# Altium integrated library motordriver.IntLib: 31 symbols
Pins are listed as number, name and electrical type; pins without a type are passive.

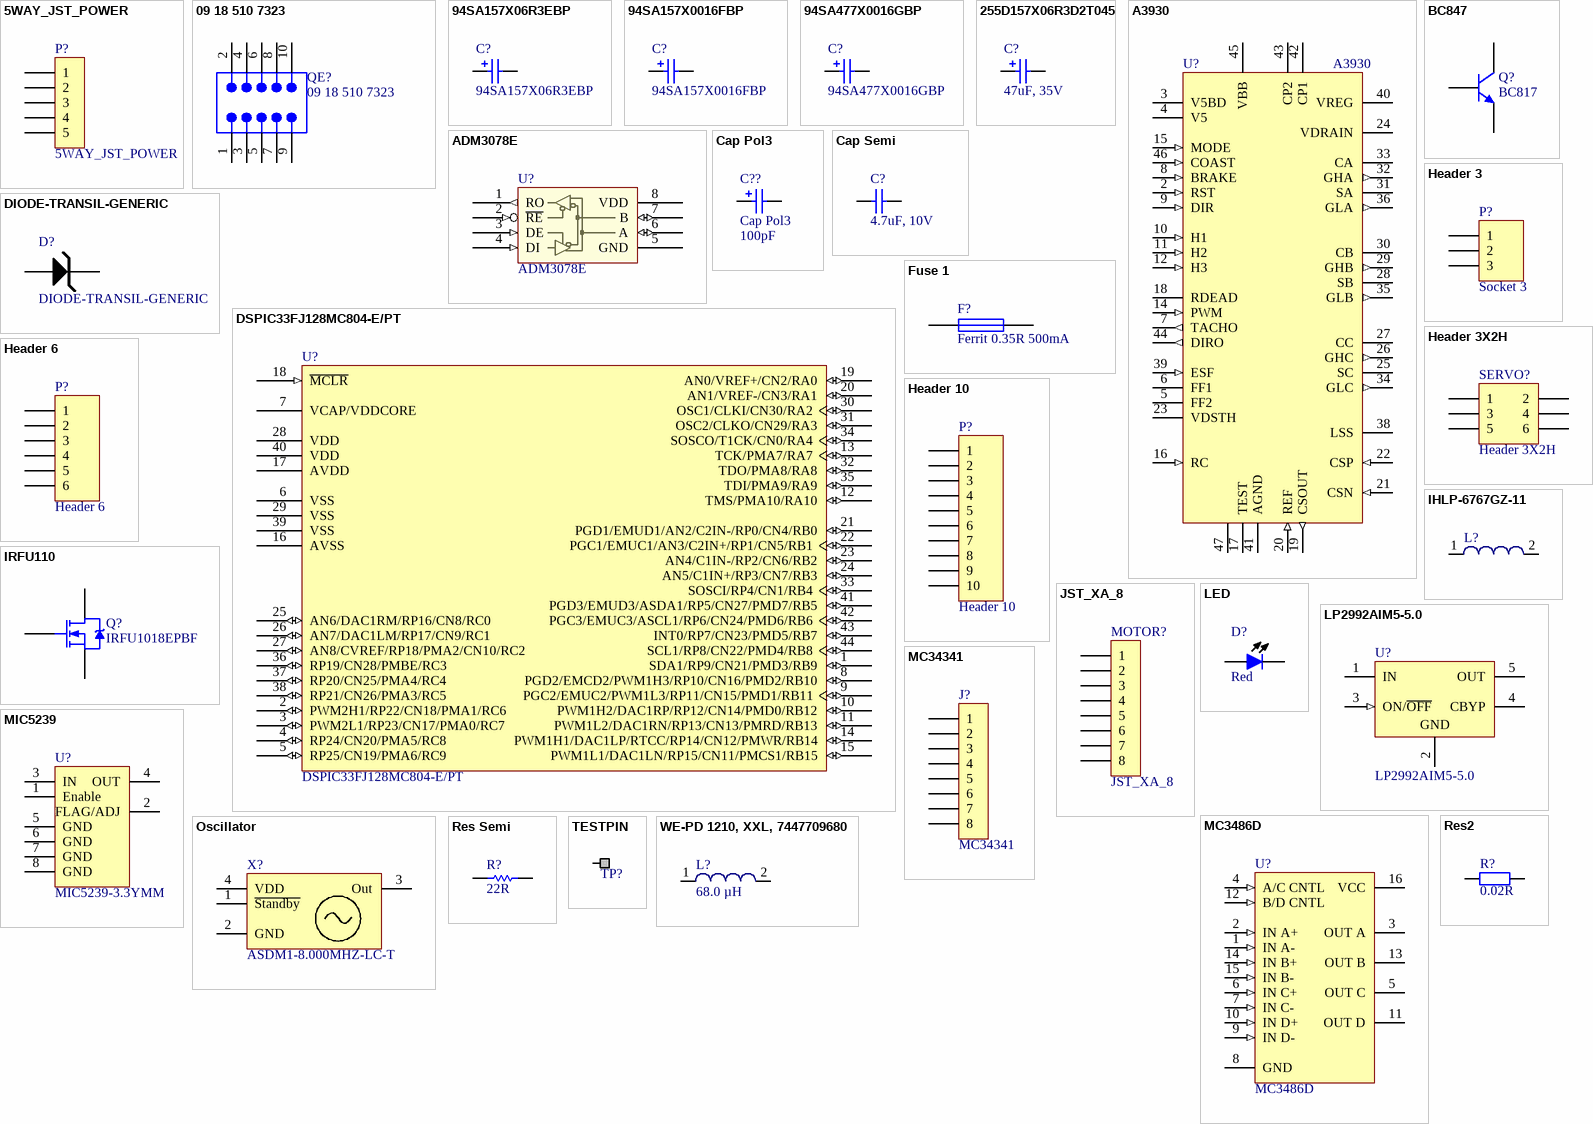
[diagram p0: symbols 5WAY_JST_POWER to WE-PD 1210, XXL, 7447709680]

## 5WAY_JST_POWER
designator P?
footprint JST POWER
pins: 1, 2, 3, 4, 5

## 09 18 510 7323
designator QE?
Flat Cable Connector (IDC), Low-Profile Male Header, Angled Solder Pin, 10 Contacts, Performance Level 3; PCB_Layout: Complies with manufacturer's recommendation.; DrillSize: Corresponds to nominal value.; Published: 15-Nov-2004; DatasheetDocument: Sep-2003; PackageDocument: 03-Jun-2003; PackageReference: 918510x323; Publisher: Altium Limited; ComponentLink1Description: Manufacturer Link; ComponentLink1URL: http://www.harting.com/; ComponentLink2Description: Selection Guide; ComponentLink2URL: http://www.harting.com/imperia/md/content/steckverbinderundsystemkomponenten/folder/interface_engl_chapter_09.pdf
footprint 918510x323 (Connector; IDC, Low Profile Male Header, Thru-Hole; 10 Position; Right Angle; Pitch 2.54 mm; Body 20.32 x 8.9 x 9.2 mm (LxWxH))
pins: 1, 2, 3, 4, 5, 6, 7, 8, 9, 10

## 94SA157X06R3EBP
designator C?
Solid Aluminum Capacitor with Organic Semiconductor Electrolyte: 150uF, 6.3V, Bulk Pack; Note: Part Numbers shown are for ± 20% capacitance tolerance (X0).; PCB_Layout: Complies with Manufacturer's Recommendation.; DrillSize: Nominal, Rounded to the nearest 0.1mm; Published: 19-Mar-2004; DatasheetDocument: 29-Jun-2001; PackageReference: E; Publisher: Altium Limited; ComponentLink1Description: Manufacturer Link; ComponentLink1URL: http://www.vishay.com/; ComponentLink2Description: Datasheet; ComponentLink2URL: http://www.vishay.com/docs/90003/94sa.pdf; Value: 150uF
footprint E (Capacitor, Electrolytic, Radial; Body 8 x 10.5 mm (Dia.xH typ); Pin Spacing 3.5 mm (typ))
simulation model CAP (Capacitor)
signal-integrity model 94SA157X06R3EBP
pins: 1, 2
1 alternate drawing of the same symbol

## 94SA157X0016FBP
designator C?
Solid Aluminum Capacitor with Organic Semiconductor Electrolyte: 150uF, 16V, Bulk Pack; Note: Part Numbers shown are for ± 20% capacitance tolerance (X0).; PCB_Layout: Complies with Manufacturer's Recommendation.; DrillSize: Nominal, Rounded to the nearest 0.1mm; Published: 19-Mar-2004; DatasheetDocument: 29-Jun-2001; PackageReference: F; Publisher: Altium Limited; ComponentLink1Description: Manufacturer Link; ComponentLink1URL: http://www.vishay.com/; ComponentLink2Description: Datasheet; ComponentLink2URL: http://www.vishay.com/docs/90003/94sa.pdf; Value: 150uF
footprint F (Capacitor, Electrolytic, Radial; Body 10 x 10.5 mm (Dia.xH typ); Pin Spacing 5 mm (typ))
simulation model CAP (Capacitor)
signal-integrity model 94SA157X0016FBP
pins: 1, 2
1 alternate drawing of the same symbol

## 94SA477X0016GBP
designator C?
Solid Aluminum Capacitor with Organic Semiconductor Electrolyte: 470uF, 16V, Bulk Pack; Note: Part Numbers shown are for ± 20% capacitance tolerance (X0).; PCB_Layout: Complies with Manufacturer's Recommendation.; DrillSize: Nominal, Rounded to the nearest 0.1mm; Published: 19-Mar-2004; DatasheetDocument: 29-Jun-2001; PackageReference: G; Publisher: Altium Limited; ComponentLink1Description: Manufacturer Link; ComponentLink1URL: http://www.vishay.com/; ComponentLink2Description: Datasheet; ComponentLink2URL: http://www.vishay.com/docs/90003/94sa.pdf; Value: 470uF
footprint G (Capacitor, Electrolytic, Radial; Body 12.5 x 22 mm (Dia.xH typ); Pin Spacing 5 mm (typ))
simulation model CAP (Capacitor)
signal-integrity model 94SA477X0016GBP
pins: 1, 2
1 alternate drawing of the same symbol

## 255D157X06R3D2T045
designator C?, comment 47uF, 35V
Note: See Data Sheet for full range of components; Published: 19-Mar-2004; DatasheetDocument: 04-Feb-2003; PackageReference: 7343; Publisher: Altium Limited; Code_JEITA: 7343; ComponentLink1Description: Manufacturer Link; ComponentLink1URL: http://www.vishay.com/; ComponentLink2Description: Datasheet; ComponentLink2URL: http://www.vishay.com/docs/40052/255d.pdf; Value: 47uF, 35V
footprint 7343 (Capacitor, SM Tantalum; Body 7.3 x 4.3 mm (LxW typ))
simulation model CAP (Capacitor)
signal-integrity model 255D157X06R3D2T045
pins: 1, 2
1 alternate drawing of the same symbol

## A3930
designator U?
brushless motor driver, 3-phase
footprint TSQFP50P900X900X160_HS-48N (TSQFP, 48-Leads, Body 9.2x9.2mm (max), Pitch 0.50mm, IPC Medium Density)
pins: 2 RST (in), 3 V5BD, 4 V5, 5 FF2, 6 FF1, 7 TACHO (out), 8 BRAKE (in), 9 DIR (in), 10 H1 (in), 11 H2 (in), 12 H3 (in), 14 PWM (in), 15 MODE (in), 16 RC (in), 17 TEST, 18 RDEAD, 19 CSOUT (out), 20 REF (in), 21 CSN (in), 22 CSP (in), 23 VDSTH, 24 VDRAIN (power), 25 SC (power), 26 GHC (out), 27 CC, 28 SB, 29 GHB (out), 30 CB, 31 SA, 32 GHA (out), 33 CA, 34 GLC (out), 35 GLB (out), 36 GLA (out), 38 LSS, 39 ESF (in), 40 VREG, 41 AGND (power), 42 CP1, 43 CP2, 44 DIRO (out), 45 VBB (power), 46 COAST (in), 47 (power), 49 AGND hidden to AGND

## ADM3078E
designator U?
Half-Duplex RS485 Transciever, 3.3V, 16Mbps
footprint SOIC-8_M (SOIC, 8-Leads, Body 4.9x3.9mm, Pitch 1.27mm, IPC Low Density)
pins: 1 RO (out), 2 ~{RE} (in), 3 DE (in), 4 DI (in), 5 GND (power), 6 A (io), 7 B (io), 8 VDD (power)

## BC847
designator Q?, comment BC817
NPN General-purpose Transistor; Published: 17-Sep-2003; LatestRevisionDate: 12-Dec-2006; LatestRevisionNote: IPC-7351 Footprint Added.; DatasheetVersion: 4-Feb-2002; PackageVersion: May-1999; PackageReference: SOT23; Publisher: Altium Limited; PackageDescription: 3-Pin SOT-23 Package 0.95 mm Pitch, 2.3 mm Lead Span; ComponentLink1Description: Manufacturer Link; ComponentLink1URL: http://www.semiconductors.philips.com/; ComponentLink2Description: Datasheet; ComponentLink2URL: http://www.semiconductors.philips.com/acrobat/datasheets/BC846_BC847_BC848_5.pdf
footprint SOT23_N (SOT23, 3-Leads, Body 2.9x1.3mm, Pitch 0.95mm, Lead Span 2.3mm, IPC Medium Density)
footprint SOT23_L (SOT23, 3-Leads, Body 2.9x1.3mm, Pitch 0.95mm, Lead Span 2.3mm, IPC High Density)
footprint SOT23_M (SOT23, 3-Leads, Body 2.9x1.3mm, Pitch 0.95mm, Lead Span 2.3mm, IPC Low Density)
simulation model QBC847 (NPN)
signal-integrity model BC847
pins: 1 B, 2 E, 3 C

## Cap Pol3
designator C??  value 100pF
Polarized Capacitor (Surface Mount); Published: 8-Jun-2000; LatestRevisionDate: 29-May-2009; LatestRevisionNote: IPC-7351 Footprint Added.; PackageReference: C0805; Publisher: Altium Limited; PackageDescription: Chip Capacitor
footprint CAPC2012L (Chip Capacitor, Body 2.0x1.3mm, IPC High Density)
footprint CAPC4532L (Chip Capacitor, Body 4.5x3.2mm, IPC High Density)
footprint CAPC4564L (Chip Capacitor, Body 4.5x6.4mm, IPC High Density)
footprint CAPC5764L (Chip Capacitor, Body 5.7x6.4mm, IPC High Density)
footprint CAPC5750L (Chip Capacitor, Body 5.7x5.0mm, IPC High Density)
simulation model CAP (Capacitor)
signal-integrity model Cap Pol
pins: 1, 2
1 alternate drawing of the same symbol

## Cap Semi
designator C?, comment 4.7uF, 10V
Capacitor (Semiconductor SIM Model); Published: 8-Jun-2000; LatestRevisionDate: 29-May-2009; LatestRevisionNote: IPC-7351 Footprint Added.; PackageReference: C1206; Publisher: Altium Limited; PackageDescription: Chip Capacitor; Value: 4.7uF, 10V
footprint CAPC3216L (Chip Capacitor, Body 3.2x1.6mm, IPC High Density)
footprint CAPC1005L (Chip Capacitor, Body 1.0x0.5mm, IPC High Density)
footprint CAPC2512L (Chip Capacitor, Body 2.54x1.27mm, IPC High Density)
footprint CAPC1608L (Chip Capacitor, Body 1.6x0.8mm, IPC High Density)
footprint CAPC3225L (Chip Capacitor, Body 3.2x2.5mm, IPC High Density)
simulation model CAP (Semiconductor Capacitor)
signal-integrity model Cap Semi
pins: 1, 2

## DIODE-TRANSIL-GENERIC
designator D?
GENERIC TRANSIL
footprint DIODE-SMB
pins: A, K

## DSPIC33FJ128MC804-E/PT
designator U?
High-Performance 16-bit Digital Signal Controller, 128 KB Flash, 16 KB RAM, 44-Pin TQFP, Extended High Temperature; FirstPublished: 29-Jan-2009; LatestRevisionDate: 02-Dec-2009; LatestRevisionNote: Updated to datasheet revision D, Nov-2009; DatasheetVersion: revD, Nov-2009; PackageVersion: revBB, Aug-2009; PackageReference: TQFP-PT44; Publisher: Altium Limited; PackageDescription: 44-Lead Plastic Thin Quad Flatpack (PT) - 10x10x1mm Body, 2.00mm [TQFP]; Supplier 1: Digi-Key; Supplier Part Number 1: DSPIC33FJ128MC804-E/PT-ND; Supplier 2: Newark; Supplier Part Number 2: 39M8144; Code_JEDEC: MS-026; ComponentLink1Description: Datasheet; ComponentLink1URL: http://ww1.microchip.com/downloads/en/DeviceDoc/70291D.pdf; ComponentLink2Description: Packaging Specification; ComponentLink2URL: http://www.microchip.com/stellent/groups/techpub_sg/documents/packagingspec/en012702.pdf; ComponentLink3Description: Microchip.com Home; ComponentLink3URL: http://www.microchip.com/
footprint TQFP-PT44_N (Thin QFP, 44-Leads, Body 10x10mm, Pitch 0.8mm, IPC Medium Density)
footprint TQFP-PT44_L (Thin QFP, 44-Leads, Body 10x10mm, Pitch 0.8mm, IPC High Density)
footprint TQFP-PT44_M (Thin QFP, 44-Leads, Body 10x10mm, Pitch 0.8mm, IPC Low Density)
pins: 1 SDA1/RP9/CN21/PMD3/RB9 (io), 2 PWM2H1/RP22/CN18/PMA1/RC6 (io), 3 PWM2L1/RP23/CN17/PMA0/RC7 (io), 4 RP24/CN20/PMA5/RC8 (io), 5 RP25/CN19/PMA6/RC9 (io), 6 VSS (power), 7 VCAP/VDDCORE (power), 8 PGD2/EMCD2/PWM1H3/RP10/CN16/PMD2/RB10 (io), 9 PGC2/EMUC2/PWM1L3/RP11/CN15/PMD1/RB11 (io), 10 PWM1H2/DAC1RP/RP12/CN14/PMD0/RB12 (io), 11 PWM1L2/DAC1RN/RP13/CN13/PMRD/RB13 (io), 12 TMS/PMA10/RA10 (io), 13 TCK/PMA7/RA7 (io), 14 PWM1H1/DAC1LP/RTCC/RP14/CN12/PMWR/RB14 (io), 15 PWM1L1/DAC1LN/RP15/CN11/PMCS1/RB15 (io), 16 AVSS (power), 17 AVDD (power), 18 ~{MCLR} (in), 19 AN0/VREF+/CN2/RA0 (io), 20 AN1/VREF-/CN3/RA1 (io), 21 PGD1/EMUD1/AN2/C2IN-/RP0/CN4/RB0 (io), 22 PGC1/EMUC1/AN3/C2IN+/RP1/CN5/RB1 (io), 23 AN4/C1IN-/RP2/CN6/RB2 (io), 24 AN5/C1IN+/RP3/CN7/RB3 (io), 25 AN6/DAC1RM/RP16/CN8/RC0 (io), 26 AN7/DAC1LM/RP17/CN9/RC1 (io), 27 AN8/CVREF/RP18/PMA2/CN10/RC2 (io), 28 VDD (power), 29 VSS (power), 30 OSC1/CLKI/CN30/RA2 (io), 31 OSC2/CLKO/CN29/RA3 (io), 32 TDO/PMA8/RA8 (io), 33 SOSCI/RP4/CN1/RB4 (io), 34 SOSCO/T1CK/CN0/RA4 (io), 35 TDI/PMA9/RA9 (io), 36 RP19/CN28/PMBE/RC3 (io), 37 RP20/CN25/PMA4/RC4 (io), 38 RP21/CN26/PMA3/RC5 (io), 39 VSS (power), 40 VDD (power), 41 PGD3/EMUD3/ASDA1/RP5/CN27/PMD7/RB5 (io), 42 PGC3/EMUC3/ASCL1/RP6/CN24/PMD6/RB6 (io), 43 INT0/RP7/CN23/PMD5/RB7 (io), 44 SCL1/RP8/CN22/PMD4/RB8 (io)

## Fuse 1
designator F?, comment Ferrit 0.35R 500mA
Ferrit Bead; Published: 8-Jun-2000; LatestRevisionDate: 17-Jul-2002; LatestRevisionNote: Re-released for DXP Platform.; PackageReference: PIN-W2/E2.8; Publisher: Altium Limited
simulation model FUSE (Spice Subcircuit)
footprint RESC1608N_R (Chip Resistor, Body 1.6x0.8mm, IPC Medium Density)
footprint RESC1608L (Chip Resistor, Body 1.6x0.8mm, IPC High Density)
pins: 1, 2

## Header 3
designator P?, comment Socket 3
Header, 3-Pin; LatestRevisionDate: 17-Jul-2002; LatestRevisionNote: Re-released for DXP Platform.; Publisher: Altium Limited
footprint HDR1X3 (Connector; Header; 3 Position)
signal-integrity model Connector
pins: 1, 2, 3

## Header 3X2H
designator SERVO?
Header, 3-Pin, Dual row, Right Angle; LatestRevisionDate: 17-Jul-2002; LatestRevisionNote: Re-released for DXP Platform.; Publisher: Altium Limited
footprint HDR2X3H (Connector; Header; 3x2 Position; Right Angle)
signal-integrity model Connector
pins: 1, 2, 3, 4, 5, 6

## Header 6
designator P?
Header, 6-Pin; LatestRevisionDate: 17-Jul-2002; LatestRevisionNote: Re-released for DXP Platform.; Publisher: Altium Limited
footprint HDR1X6 (Connector; Header; 6 Position)
signal-integrity model Connector
pins: 1, 2, 3, 4, 5, 6

## Header 10
designator P?
Header, 10-Pin; LatestRevisionDate: 17-Jul-2002; LatestRevisionNote: Re-released for DXP Platform.; Publisher: Altium Limited
footprint HDR1X10 (Connector; Header; 10 Position)
signal-integrity model Connector
pins: 1, 2, 3, 4, 5, 6, 7, 8, 9, 10

## IHLP-6767GZ-11
designator L?
IHLP-6767GZ-11 Low Profile, High Current Inductors
footprint IHLP-6767GZ-11 (IHLP-6767GZ-11 Low Profile, High Current Inductors)
pins: 1, 2

## IRFU110
designator Q?, comment IRFU1018EPBF
HEXFET Power MOSFET; Note: Pin 2 is electrically connected to pin 4.; Published: 8-Jun-2000; LatestRevisionDate: 17-Jul-2002; LatestRevisionNote: Re-released for DXP Platform.; DatasheetVersion: PD-9.524D; PackageReference: TO-251AA; Publisher: Altium Limited; PackageDescription: TO, Thru-Hole, Vertical, Heatsink Mounted; 3 In-Line Leads; Pitch 2.28 mm; ComponentLink1Description: Manufacturer Link; ComponentLink1URL: http://www.irf.com/; ComponentLink2Description: Datasheet; ComponentLink2URL: http://www.irf.com/product-info/datasheets/data/irfr110.pdf
footprint TO-251AA (TO, Thru-Hole, Vertical, Heatsink Mounted; 3 In-Line Leads; Pitch 2.28 mm)
simulation model IRFU110 (SUBCKT)
pins: 1 G, 2 D, 3 S

## JST_XA_8
designator MOTOR?
footprint JST XA
pins: 1, 2, 3, 4, 5, 6, 7, 8

## LED
designator D?, comment Color: Red  (hidden comment: LED Red)
LED
footprint RESC1005M (Chip Resistor, Body 1.1x0.5mm, IPC Low Density)
footprint RESC1005N (Chip Resistor, Body 1.1x0.5mm, IPC Medium Density)
footprint CD1608-0603 (Chip Diode; Body 1.6 x 0.8 mm (LxW typ))
pins: 1 A, 2 C

## LP2992AIM5-5.0
designator U?
Micropower 250 mA Low-Noise Ultra Low-Dropout Regulator in SOT-23 and LLP Packages; Manufacturer: National Semiconductor; CompType: LDO IC; PackageTopMarking: LFFA*XTT; PowerWise: N; Published: 4-Dec-2008; DatasheetVersion: May-2005; PackageVersion: revD, Aug-2008; PackageReference: MF05A; Publisher: Altium Limited; PackageDescription: Molded SOT-23, .115 x .063 x .040 in Body, 5 Lead, .0375 in Pitch; PartNumber: LP2992AIM5-5.0; RoHS: O; PinCount: 5; DigiKeyPartNumber: LP2992AIM5-5.0CT-ND; ComponentLink1Description: LP2992 Datasheet; ComponentLink1URL: http://www.national.com/ds/LP/LP2992.pdf; ComponentLink2Description: LP2992 Web Page; ComponentLink2URL: http://www.national.com/pf/LP/LP2992.html; ComponentLink3Description: MF05A Package Page; ComponentLink3URL: http://www.national.com/packaging/folders/mf05a.html
footprint MF05A_N (SOT23, 5-Leads, Body 2.9x1.6mm, Pitch 0.95mm, Lead Span 2.8mm, IPC Medium Density)
footprint MF05A_L (SOT23, 5-Leads, Body 2.9x1.6mm, Pitch 0.95mm, Lead Span 2.8mm, IPC High Density)
footprint MF05A_M (SOT23, 5-Leads, Body 2.9x1.6mm, Pitch 0.95mm, Lead Span 2.8mm, IPC Low Density)
pins: 1 IN (power), 2 GND (power), 3 ON/~{OFF} (in), 4 CBYP, 5 OUT (power)

## MC3486D
designator U?
Quad EIA-422/423 Line Receiver; Published: 17-Jul-2002; LatestRevisionDate: 13-Apr-2006; LatestRevisionNote: IPC-7351 Footprint Added.; DatasheetVersion: 1988; PackageVersion: 1991; PackageReference: 751B-03; Publisher: Altium Limited; PackageDescription: 16-Pin Small Outline Integrated Circuit 1.27 mm Pitch; Code_JEDEC: MS-012-AC; Code_IPC: SOIC127P600-16; ComponentLink1Description: Manufacturer Link; ComponentLink1URL: http://www.onsemi.com/site/products/parametrics/0,4446,178,00.html
footprint 751B-03_N (SOIC, 16-Leads, Body 9.9x3.9mm, Pitch 1.27mm, IPC Medium Density)
footprint 751B-03_L (SOIC, 16-Leads, Body 9.9x3.9mm, Pitch 1.27mm, IPC High Density)
footprint 751B-03_M (SOIC, 16-Leads, Body 9.9x3.9mm, Pitch 1.27mm, IPC Low Density)
3D model 751B-03 (16-Pin Small Outline Integrated Circuit 1.27 mm Pitch)
pins: 1 IN A- (in), 2 IN A+ (in), 3 OUT A (hiz), 4 A/C CNTL (in), 5 OUT C (hiz), 6 IN C+ (in), 7 IN C- (in), 8 GND (power), 9 IN D- (in), 10 IN D+ (in), 11 OUT D (hiz), 12 B/D CNTL (in), 13 OUT B (hiz), 14 IN B+ (in), 15 IN B- (in), 16 VCC (power)

## MC34341
designator J?
MC34341 - STECKER,90°,8KONT
footprint MC34341 (MC34341 8-pin 90° power connector)
pins: 1, 2, 3, 4, 5, 6, 7, 8

## MIC5239
designator U?, comment MIC5239-3.3YMM
LDO, 500mA, Vin:2.3V-30V
footprint MSOP-8 (MSOP, 8-Leads, Body 3x3mm, Pitch 0.65mm, IPC Low Density)
pins: 1 Enable, 2 FLAG/ADJ, 3 IN (power), 4 OUT (power), 5 GND (power), 6 GND (power), 7 GND (power), 8 GND (power)

## Oscillator
designator X?, comment ASDM1-8.000MHZ-LC-T
Oscillator; Name: ASDM1; Value: 8MHz
footprint Crystal-Oscillator-2520 (Crystal Package, Body 2.5x2.0mm, Pitch 1.65mm, IPC Low Density)
pins: 1 ~{Standby}, 2 GND, 3 Out, 4 VDD

## Res2
designator R?, comment value 0.02R  (hidden comment: 20mR)
Resistor; Published: 8-Jun-2000; LatestRevisionDate: 17-Jul-2002; LatestRevisionNote: Re-released for DXP Platform.; PackageReference: AXIAL-0.4; Publisher: Altium Limited
footprint AXIAL-0.4 (Axial Device, Thru-Hole; 2 Leads; 0.4 in Pin Spacing)
simulation model RESISTOR (Resistor)
signal-integrity model Res
footprint RESC6332N (Chip Resistor, Body 6.3x3.2mm, IPC Medium Density)
pins: 1, 2

## Res Semi
designator R?, comment 22R
Semiconductor Resistor; Published: 8-Jun-2000; LatestRevisionDate: 17-Jul-2002; LatestRevisionNote: Re-released for DXP Platform.; PackageReference: AXIAL-0.5; Publisher: Altium Limited; Value: 22R
footprint AXIAL-0.5 (Axial Device, Thru-Hole; 2 Leads; 0.5 in Pin Spacing)
footprint RESC1005L (Chip Resistor, Body 1.1x0.5mm, IPC High Density)
footprint RESC1608L (Chip Resistor, Body 1.6x0.8mm, IPC High Density)
footprint RESC2012L (Chip Resistor, Body 2.0x1.3mm, IPC High Density)
footprint RESC3216L (Chip Resistor, Body 3.1x1.6mm, IPC High Density)
simulation model RES (Semiconductor Resistor)
signal-integrity model Res Semi
pins: 1, 2

## TESTPIN
designator TP?  (value not drawn)
TESTPIN SINGLE PIN HEADER; Manufacturer 1: Sharon Long Industries; Manufacturer Part Number 1: Cut-it-yourself; Reel: TH; Description: Single pin header; Supplier 1: Sharon Long Industries; Supplier 1 Part number: Cut-It-Yourself
footprint TESTPIN
pins: 1

## WE-PD 1210, XXL, 7447709680
designator L?, comment 68.0 µH
SMD-Shielded Power Inductor WE-PD, L=68.0 µH; partNo: 7447709680; Inductance: 68.0 µH; ComponentLink1Description: Manufacturer; ComponentLink1URL: http://www.we-online.de; Created by: Christin Zierenner; Created Date: June 2009; ComponentLink2Description: Datasheet; ComponentLink2URL: http://www.we-online.de/katalog/media/pdf/7447709680.pdf
footprint WE-PD XXL (Inductor, 2-Leads, Body 12,0x12,0mm)
pins: 1, 2